# Altium schematic symbol library B2B-XH-AM_LF__SN_.SchLib: 2 symbols
Pins are listed as number, name and electrical type; pins without a type are passive.

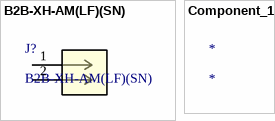
[diagram p0: symbols B2B-XH-AM(LF)(SN) to Component_1]

## B2B-XH-AM(LF)(SN)
designator J?
No Description Available; Mfr_Name: JST; Copyright: Copyright (C) 2022 Ultra Librarian. All rights reserved.; Manufacturer_Part_Number: B2B-XH-AM(LF)(SN); Digi-Key_Part_Number_1: 455-2273-ND; Digi-Key_Part_Number_2: 455-2879-ND; RefDes: RefDes; Type: DEV
footprint CONN_B2B-XH-AM_JST
pins: 1, 2

## Component_1
designator *